# Altium schematic symbol library SCH - PASSIVES - RESISTOR ARRAY (4 CIRCUIT).SCHLIB: 1 symbol
Pins are listed as number, name and electrical type; pins without a type are passive.

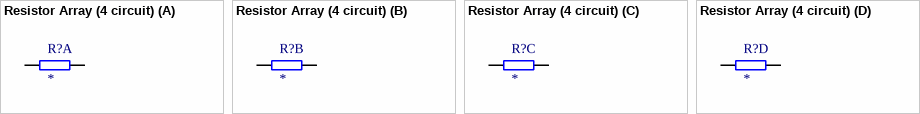
[diagram p0: symbol Resistor Array (4 circuit)]

## Resistor Array (4 circuit)
designator R?
part A pins: 1, 8
part B pins: 2, 7
part C pins: 3, 6
part D pins: 4, 5